# Altium schematic symbol library SI2304DDS-T1-GE3.Schlib: 1 symbol
Pins are listed as number, name and electrical type; pins without a type are passive.

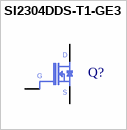
[diagram p0: symbol SI2304DDS-T1-GE3]

## SI2304DDS-T1-GE3
designator Q?  (value not drawn)
pins: 1 G, 2 S, 3 D